# EAGLE library part PCA9518 (library philips_I2C_repeaters-hubs-expanders)
Expandable 5-channel I2C hub he PCA9518 BiCMOS integrated circuit is a five way hub repeater, which enables I2C and similar bus systems to be expanded in increments of five with only one repeater delay and no functional degradation of system performance. The PCA9518 BiCMOS integrated circuit contains five multi-directional, open drain buffers specifically designed to support the standard low-level-contention arbitration of the I2C-bus. Except during arbitration or clock stretching, the PCA9518 acts like a pair of non-inverting, open drain buffers, one for SDA and one for SCL.
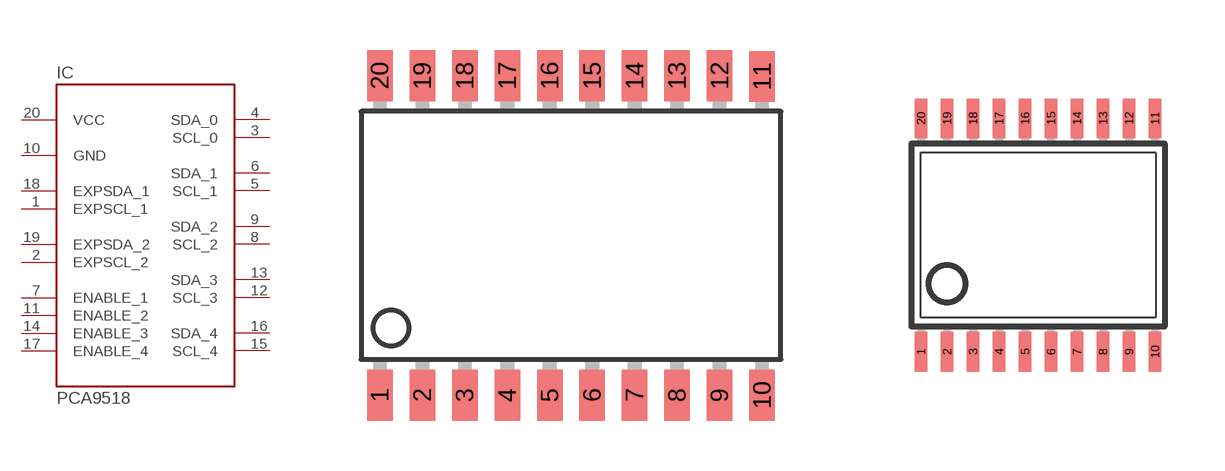
[diagram p4: symbol with the pads of SO20-2; footprints SO20-2, TSSOP20]

Designator prefix IC

## PCA9518D-T  [SO20-2]
1  EXPSCL_1
2  EXPSCL_2
3  SCL_0
4  SDA_0
5  SCL_1
6  SDA_1
7  ENABLE_1  in
8  SCL_2
9  SDA_2
10  GND  pwr
11  ENABLE_2  in
12  SCL_3
13  SDA_3
14  ENABLE_3  in
15  SCL_4
16  SDA_4
17  ENABLE_4  in
18  EXPSDA_1
19  EXPSDA_2
20  VCC  pwr

## PCA9518PW-T  [TSSOP20]
Pads as for SO20-2

## Footprint SO20-2 (pad centres in mm)
Small Outline Package
smd 0.762 x 1.524: 1 -5.715,-4.775; 2 -4.445,-4.775; 3 -3.175,-4.775; 4 -1.905,-4.775; 5 -0.635,-4.775; 6 0.635,-4.775; 7 1.905,-4.775; 8 3.175,-4.775; 9 4.445,-4.775; 10 5.715,-4.775; 11 5.715,4.75; 12 4.445,4.775; 13 3.175,4.775; 14 1.905,4.775; 15 0.635,4.775; 16 -0.635,4.775; 17 -1.905,4.775; 18 -3.175,4.775; 19 -4.445,4.775; 20 -5.715,4.775

## Footprint TSSOP20 (pad centres in mm)
Thin Shrink Small Outline Plastic 20 MAX3223-MAX3243.pdf
smd 0.305 x 0.991: 1 -2.925,-2.918; 2 -2.275,-2.918; 3 -1.625,-2.918; 4 -0.975,-2.918; 5 -0.325,-2.918; 6 0.325,-2.918; 7 0.975,-2.918; 8 1.625,-2.918; 9 2.275,-2.918; 10 2.925,-2.918; 11 2.925,2.918; 12 2.275,2.918; 13 1.625,2.918; 14 0.975,2.918; 15 0.325,2.918; 16 -0.325,2.918; 17 -0.975,2.918; 18 -1.625,2.918; 19 -2.275,2.918; 20 -2.925,2.918